# Altium footprint library RES-0603.PcbLib: 1 footprints
Each footprint in its own frame and in the unit in brackets; x right, y up, seen from the top. Pads: shape width x height; smd on the part's side, far side on the other; paste and mask are expansions set on the pad; w line width, h text height; cw(c..) or ccw(c..) is an arc to the next point about the centre after c.
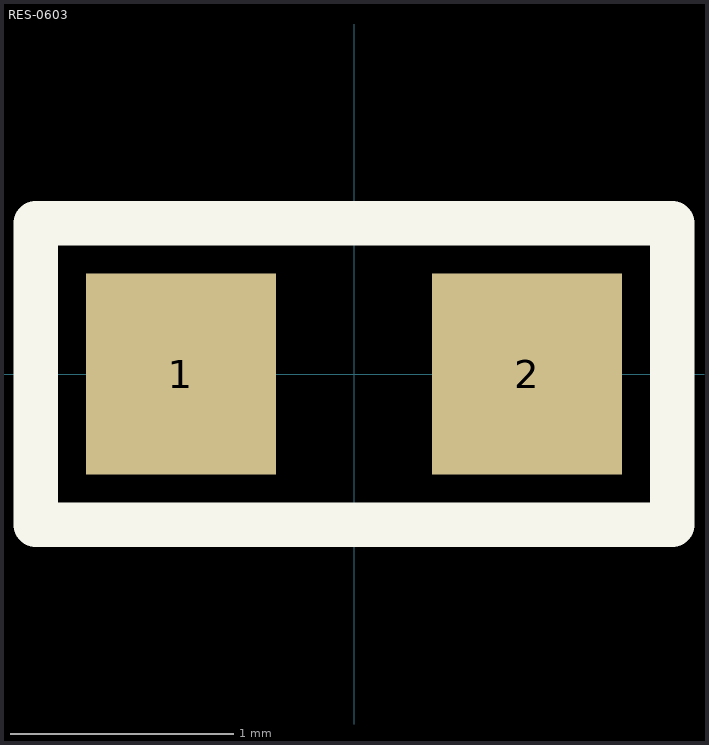
[diagram p0: the footprint, top view; thin cyan lines are the x and y axes]

## RES-0603 [mm]
height 0.55
pads (2):
  rect 0.85x0.9 smd: 1(-0.775,0) 2(0.775,0)
Top Overlay:
  lines w0.2: -1.425,-0.675 1.425,-0.675 1.425,0.675 -1.425,0.675 -1.425,-0.675
Top Assembly:
  lines w0.1: -1.425,-0.675 1.425,-0.675 1.425,0.675 -1.425,0.675 -1.425,-0.675
  text "'.Designator'" at -0.975,-0.35 h0.7
3D body "RES-0603.step": height 0.55, standoff 0, extent -0.85,-0.45 0.85,0.45